# Altium integrated library M80-5401642.IntLib: 1 symbol
Pins are listed as number, name and electrical type; pins without a type are passive.

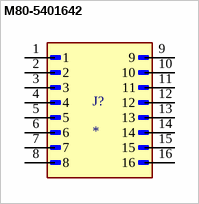
[diagram p0: symbol M80-5401642]

## M80-5401642
designator J?
Datamate J-Tek DIL Male Horizontal 3mm Throughboard Connector, selective gold + tin, with jackscrews + 3.5mm board mount bolts, 8+8 contacts; MF: Harwin; MP: M80-5401642; SnapEDA_Link: https://www.snapeda.com/parts/M80-5401642/Harwin+Inc./view-part/?ref=snap; Package: None; Value: *; Check_prices: https://www.snapeda.com/parts/M80-5401642/Harwin+Inc./view-part/?ref=eda
footprint HARWIN_M80-5401642
pins: 1, 2, 3, 4, 5, 6, 7, 8, 9, 10, 11, 12, 13, 14, 15, 16